# Altium schematic symbol library indicator.SchLib: 1 symbol
Pins are listed as number, name and electrical type; pins without a type are passive.

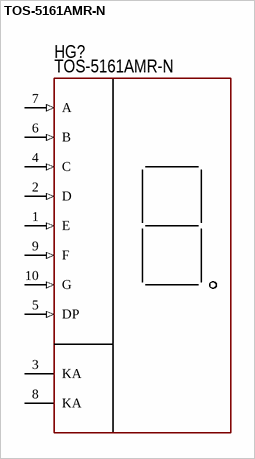
[diagram p0: symbol TOS-5161AMR-N]

## TOS-5161AMR-N
designator HG?  PartNumber: TOS-5161AMR-N
Single Digit Display LED; Manufacturer: Taiwan Oasis Technology Co., Ltd; Forward Voltage: 2V; HelpURL: https://www.chipdip.ru/product/tos-5161amr-n; Package: TOS-5161AMR-N; ComponentType: Single Digit Display LED; ValueManufacturerPartNumber: =ComponentType+', '+Supply+', '+Temperature+', '+Package; Temperature: -25...+85°C; Price ChipDip: 53
footprint TOS-5161AMR-N
pins: 1 E (in), 2 D (in), 3 KA, 4 C (in), 5 DP (in), 6 B (in), 7 A (in), 8 KA, 9 F (in), 10 G (in)